# Altium footprint library SOD.PcbLib: 1 footprints
Each footprint in its own frame and in the unit in brackets; x right, y up, seen from the top. Pads: shape width x height; smd on the part's side, far side on the other; paste and mask are expansions set on the pad; w line width, h text height; cw(c..) or ccw(c..) is an arc to the next point about the centre after c.
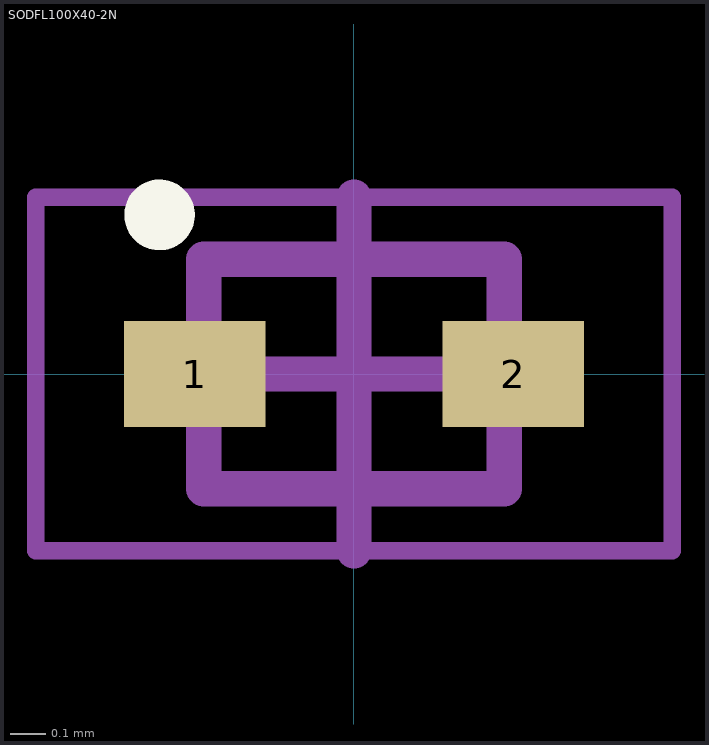
[diagram p0: the footprint, top view; thin cyan lines are the x and y axes]

## SODFL100X40-2N [mm] "SODFL, 2-Leads, Body 0,60x1,00mm, IPC Medium Density"
height 0.4
pads (2):
  rect 0.4x0.3 smd: 1(-0.45,0) 2(0.45,0)
Top Overlay:
  circle w0.1: c-0.55,0.45 r0.05
Mechanical 13:
  lines w0.1: -0.425,-0.325 -0.425,0.325 0.425,0.325 0.425,-0.325 -0.425,-0.325
Mechanical 15:
  lines w0.05: -0.9,-0.5 -0.9,0.5 0.9,0.5 0.9,-0.5 -0.9,-0.5
  lines w0.1: -0.5,0 0.5,0 ; 0,-0.5 0,0.5
3D body "SODFL100X40-2N.step": height 0.32, standoff -0.08, extent -0.5,-0.325 0.5,0.325